# EAGLE library part 87264-06_S (library con-molex-milli-grid)
RECEPTACAL
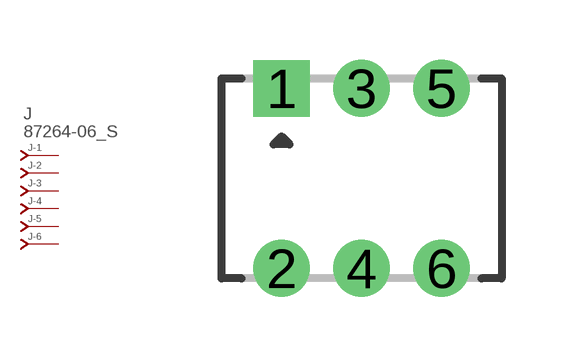
[diagram p282: symbol with the pads of 87264-06; footprint 87264-06]

Designator prefix J; gates -1=J-NV -2=J-N -3=J-N -4=J-N -5=J-N -6=J-N

## 87264-06_S  [87264-06]
1  -1:J  pas
2  -2:J  pas
3  -3:J  pas
4  -4:J  pas
5  -5:J  pas
6  -6:J  pas

## Footprint 87264-06 (pad centres in mm)
RECEPTACAL Dual Row, Side Entry
drill 0.914 square: 1 -2,2.25
drill 0.914: 2 -2,-2.25; 3 0,2.25; 4 0,-2.25; 5 2,2.25; 6 2,-2.25